# EAGLE library part TEENSY-3.2 (library foo)
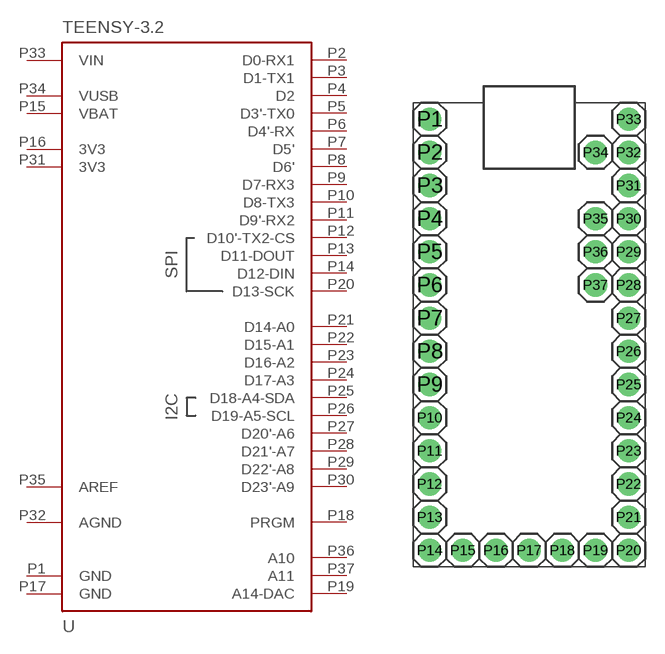
[diagram p0: symbol with the pads of TEENSY-3.2; footprint TEENSY-3.2]

Designator prefix U

## TEENSY-3.2  [TEENSY-3.2]
P1  GND  pwr
P2  D0-RX1
P3  D1-TX1
P4  D2
P5  D3'-TX0
P6  D4'-RX
P7  D5'
P8  D6'
P9  D7-RX3
P10  D8-TX3
P11  D9'-RX2
P12  D10'-TX2-CS
P13  D11-DOUT
P14  D12-DIN
P15  VBAT  pwr
P16  3V3  pwr
P17  GND  pwr
P18  PRGM
P19  A14-DAC
P20  D13-SCK
P21  D14-A0
P22  D15-A1
P23  D16-A2
P24  D17-A3
P25  D18-A4-SDA
P26  D19-A5-SCL
P27  D20'-A6
P28  D21'-A7
P29  D22'-A8
P30  D23'-A9
P31  3V3  pwr
P32  AGND  pwr
P33  VIN  pwr
P34  VUSB  pwr
P35  AREF  pwr
P36  A10
P37  A11

## Footprint TEENSY-3.2 (pad centres in mm)
drill 1.016 pad 1.778: P1 -7.62,16.51; P2 -7.62,13.97; P3 -7.62,11.43; P4 -7.62,8.89; P5 -7.62,6.35; P6 -7.62,3.81; P7 -7.62,1.27; P8 -7.62,-1.27; P9 -7.62,-3.81; P10 -7.62,-6.35; P11 -7.62,-8.89; P12 -7.62,-11.43; P13 -7.62,-13.97; P14 -7.62,-16.51; P15 -5.08,-16.51; P16 -2.54,-16.51; P17 0,-16.51; P18 2.54,-16.51; P19 5.08,-16.51; P20 7.62,-16.51; P21 7.62,-13.97; P22 7.62,-11.43; P23 7.62,-8.89; P24 7.62,-6.35; P25 7.62,-3.81; P26 7.62,-1.27; P27 7.62,1.27; P28 7.62,3.81; P29 7.62,6.35; P30 7.62,8.89; P31 7.62,11.43; P32 7.62,13.97; P33 7.62,16.51; P34 5.08,13.97; P35 5.08,8.89; P36 5.08,6.35; P37 5.08,3.81